# EAGLE library part LNK574 (library power_integrations)
LinkZero-LP is an upgrade to the popular LinkSwitch-LP, the industry’s lowest component count charger/adapter and standby power switcher IC. The LinkZero-LP controller incorporates new technology which enables the device to automatically enter into and wake up from no-load mode while taking less than 5 mW from the AC power. IEC 62301 specifies measurements of standby power to a minimum accuracy of 10 mW, and so LinkZero-LP’s consumption of substantially less than 5 mW at 230 VAC rounds to zero based on the IEC definition. This low power level is also immeasurable on most power meters. The tightly specified FEEDBACK (FB) pin voltage reference enables universal input primary side regulated power supplies with accurate constant voltage from 5% to full load. The start-up and operating power are derived directly from the DRAIN pin which eliminates start-up circuitry. The internal oscillator frequency is jittered to significantly reduce both quasi-peak and average EMI, minimizing filter cost.
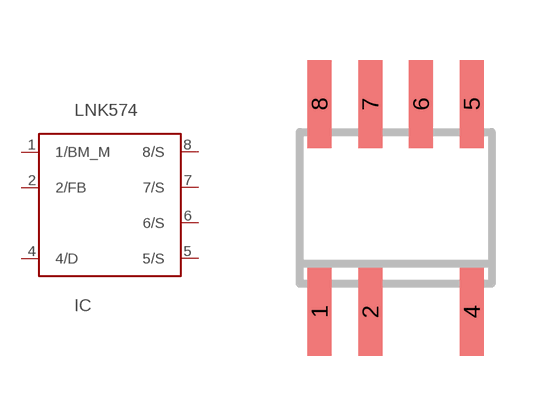
[diagram p12: symbol with the pads of SO8-C(D_PACKAGE); footprint SO8-C(D_PACKAGE)]

Designator prefix IC

## LNK574  [SO8-C(D_PACKAGE)]
1  1/BM_M
2  2/FB
4  4/D
5  5/S
6  6/S
7  7/S
8  8/S

## Footprint SO8-C(D_PACKAGE) (pad centres in mm)
SMALL OUTLINE INTEGRATED CIRCUIT body 3.9 mm/JEDEC MS-012AA
smd 0.6 x 2.2: 1 -1.905,-2.6; 2 -0.635,-2.6; 4 1.905,-2.6; 5 1.905,2.6; 6 0.635,2.6; 7 -0.635,2.6; 8 -1.905,2.6